# EAGLE library part HSEC8-160-01-L-RA (library HSEC8-160-01-L-RA)
Standard Card Edge Connectors 0.80 mm Edge Rate High-Speed Edge Card Connector, Vertical Source: Datasheet <http://suddendocs.samtec.com/prints/hsec8-1xx-xx-x-ra-xx-xx-mkt.pdf>
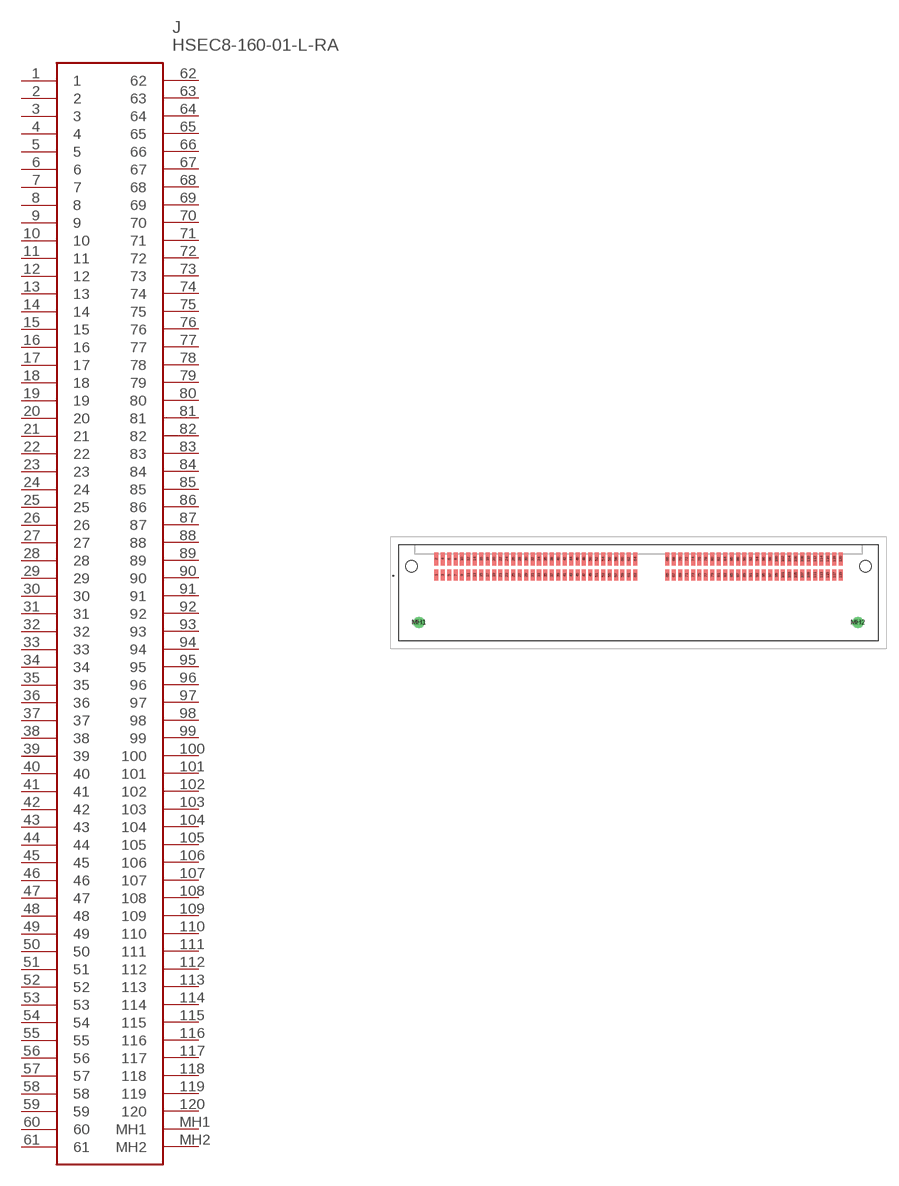
[diagram p0: symbol with the pads of HSEC816001LRA; footprint HSEC816001LRA]

Designator prefix J

## HSEC8-160-01-L-RA (Arrow_Part_Number: HSEC8-160-01-L-RA; Arrow_Price-Stock: https://www.arrow.com/en/products/hsec8-160-01-l-ra/samtec; Description: Standard Card Edge Connectors 0.80 mm Edge Rate High-Speed Edge Card Connector, Vertical; Height: 5.2mm; Manufacturer_Name: SAMTEC; Manufacturer_Part_Number: HSEC8-160-01-L-RA; Mouser_Part_Number: 200-HSEC816001LRA; Mouser_Price-Stock: https://www.mouser.co.uk/ProductDetail/Samtec/HSEC8-160-01-L-RA?qs=PB6%2FjmICvI0%2Fn8DfqkkCjQ%3D%3D)  [HSEC816001LRA]
1  1
2  2
3  3
4  4
5  5
6  6
7  7
8  8
9  9
10  10
11  11
12  12
13  13
14  14
15  15
16  16
17  17
18  18
19  19
20  20
21  21
22  22
23  23
24  24
25  25
26  26
27  27
28  28
29  29
30  30
31  31
32  32
33  33
34  34
35  35
36  36
37  37
38  38
39  39
40  40
41  41
42  42
43  43
44  44
45  45
46  46
47  47
48  48
49  49
50  50
51  51
52  52
53  53
54  54
55  55
56  56
57  57
58  58
59  59
60  60
61  61
62  62
63  63
64  64
65  65
66  66
67  67
68  68
69  69
70  70
71  71
72  72
73  73
74  74
75  75
76  76
77  77
78  78
79  79
80  80
81  81
82  82
83  83
84  84
85  85
86  86
87  87
88  88
89  89
90  90
91  91
92  92
93  93
94  94
95  95
96  96
97  97
98  98
99  99
100  100
101  101
102  102
103  103
104  104
105  105
106  106
107  107
108  108
109  109
110  110
111  111
112  112
113  113
114  114
115  115
116  116
117  117
118  118
119  119
120  120
MH1  MH1
MH2  MH2

## Footprint HSEC816001LRA (pad centres in mm)
HSEC8-160-01-L-RA-1
smd 0.5 x 1.35: 1 -25.2,2.2; 3 -24.4,2.2; 5 -23.6,2.2; 7 -22.8,2.2; 9 -22,2.2; 11 -21.2,2.2; 13 -20.4,2.2; 15 -19.6,2.2; 17 -18.8,2.2; 19 -18,2.2; 21 -17.2,2.2; 23 -16.4,2.2; 25 -15.6,2.2; 27 -14.8,2.2; 29 -14,2.2; 31 -13.2,2.2; 33 -12.4,2.2; 35 -11.6,2.2; 37 -10.8,2.2; 39 -10,2.2; 41 -9.2,2.2; 43 -8.4,2.2; 45 -7.6,2.2; 47 -6.8,2.2; 49 -6,2.2; 51 -5.2,2.2; 53 -4.4,2.2; 55 -3.6,2.2; 57 -2.8,2.2; 59 -2,2.2; 61 -1.2,2.2; 63 -0.4,2.2; 65 3.6,2.2; 67 4.4,2.2; 69 5.2,2.2; 71 6,2.2; 73 6.8,2.2; 75 7.6,2.2; 77 8.4,2.2; 79 9.2,2.2; 81 10,2.2; 83 10.8,2.2; 85 11.6,2.2; 87 12.4,2.2; 89 13.2,2.2; 91 14,2.2; 93 14.8,2.2; 95 15.6,2.2; 97 16.4,2.2; 99 17.2,2.2; 101 18,2.2; 103 18.8,2.2; 105 19.6,2.2; 107 20.4,2.2; 109 21.2,2.2; 111 22,2.2; 113 22.8,2.2; 115 23.6,2.2; 117 24.4,2.2; 119 25.2,2.2
smd 0.5 x 1.65: 2 -25.2,4.2; 4 -24.4,4.2; 6 -23.6,4.2; 8 -22.8,4.2; 10 -22,4.2; 12 -21.2,4.2; 14 -20.4,4.2; 16 -19.6,4.2; 18 -18.8,4.2; 20 -18,4.2; 22 -17.2,4.2; 24 -16.4,4.2; 26 -15.6,4.2; 28 -14.8,4.2; 30 -14,4.2; 32 -13.2,4.2; 34 -12.4,4.2; 36 -11.6,4.2; 38 -10.8,4.2; 40 -10,4.2; 42 -9.2,4.2; 44 -8.4,4.2; 46 -7.6,4.2; 48 -6.8,4.2; 50 -6,4.2; 52 -5.2,4.2; 54 -4.4,4.2; 56 -3.6,4.2; 58 -2.8,4.2; 60 -2,4.2; 62 -1.2,4.2; 64 -0.4,4.2; 66 3.6,4.2; 68 4.4,4.2; 70 5.2,4.2; 72 6,4.2; 74 6.8,4.2; 76 7.6,4.2; 78 8.4,4.2; 80 9.2,4.2; 82 10,4.2; 84 10.8,4.2; 86 11.6,4.2; 88 12.4,4.2; 90 13.2,4.2; 92 14,4.2; 94 14.8,4.2; 96 15.6,4.2; 98 16.4,4.2; 100 17.2,4.2; 102 18,4.2; 104 18.8,4.2; 106 19.6,4.2; 108 20.4,4.2; 110 21.2,4.2; 112 22,4.2; 114 22.8,4.2; 116 23.6,4.2; 118 24.4,4.2; 120 25.2,4.2
drill 0.86 pad 1.397: MH1 -27.35,-3.725; MH2 27.35,-3.725
hole 1.45 at 28.3,3.275
hole 1.45 at -28.3,3.275